# EAGLE library part NCP3170 (library kmod-ics)
NCP3170 3A buck converter
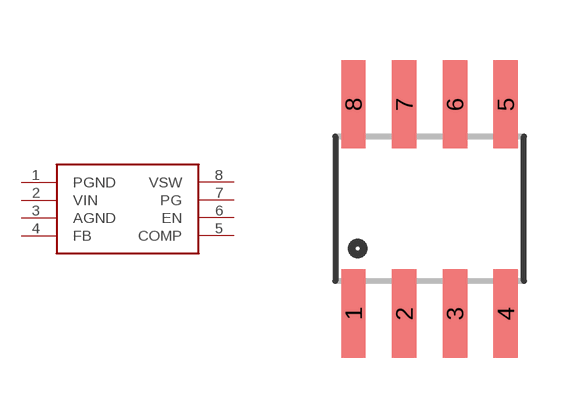
[diagram p8: symbol with the pads of SO08; footprint SO08]

Designator prefix -

## NCP3170  [SO08]
1  PGND
2  VIN
3  AGND
4  FB
5  COMP
6  EN
7  PG
8  VSW

## Footprint SO08 (pad centres in mm)
Small Outline Package Fits JEDEC packages (narrow SOIC-8 [3.90mm])
smd 0.61 x 2.21: 1 -1.905,-2.616; 2 -0.635,-2.616; 3 0.635,-2.616; 4 1.905,-2.616; 5 1.905,2.616; 6 0.635,2.616; 7 -0.635,2.616; 8 -1.905,2.616